# Altium footprint library EVP-AKE31A.PcbLib: 1 footprints
Each footprint in its own frame and in the unit in brackets; x right, y up, seen from the top. Pads: shape width x height; smd on the part's side, far side on the other; paste and mask are expansions set on the pad; w line width, h text height; cw(c..) or ccw(c..) is an arc to the next point about the centre after c.
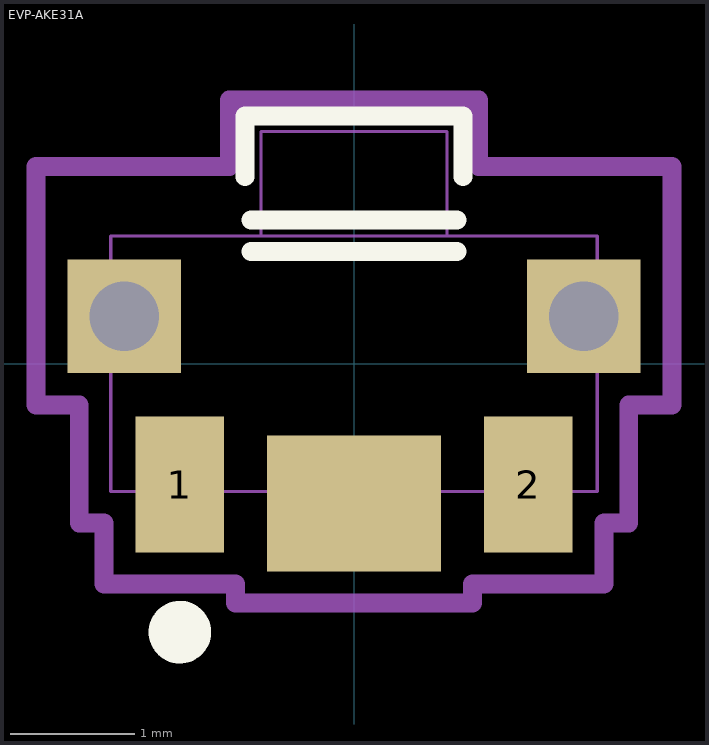
[diagram p0: the footprint, top view; thin cyan lines are the x and y axes]

## EVP-AKE31A [mil]
pads (5):
  rect 28x43 smd paste+0 mask+1.97: 1(-55.12,-38.25) 2(55.12,-38.25)
  rect 36x36 / inner round 60 / far side rect 36x36 hole 22 paste+0 mask+1.97: ""(-72.75,15)
  rect 55x43 smd paste+0 mask+1.97: ""(0,-44.25)
  rect 36x36 / inner round 60 / far side rect 36x36 hole 22 mask+1.97: ""(72.75,15)
Top Overlay:
  circle w9.84: c-55.12,-85 r5
  lines w6: -34.5,59.21 -34.5,78.5 34.5,78.5 34.5,59.21 ; -32.65,35.5 32.65,35.5 ; -32.65,45.5 32.65,45.5
Top 3D Body:
  lines w1: -77,-40.5 -77,40.5 77,40.5 77,-40.5 -77,-40.5 ; -29.5,40.5 -29.5,73.5 29.5,73.5 29.5,40.5 -29.5,40.5
Top Courtyard:
  lines w6: -100.75,-13 -87,-13 -87,-50.5 -79.12,-50.5 -79.12,-69.75 -37.5,-69.75 -37.5,-75.75 37.5,-75.75 37.5,-69.75 79.12,-69.75 79.12,-50.5 87,-50.5 87,-13 100.75,-13 100.75,62.5 39.5,62.5 39.5,83.5 -39.5,83.5 -39.5,62.5 -100.75,62.5 -100.75,-13
3D body "EVP-AKE31A.STEP": height 63.39, standoff -17.32, extent -76.77,-38.69 76.77,75.48